# Altium integrated library ALTIUM-PHD_1_27_SMT_DUAL_SOCKET_HEADER_6230XX21021-rev16b.IntLib: 24 symbols
Pins are listed as number, name and electrical type; pins without a type are passive.

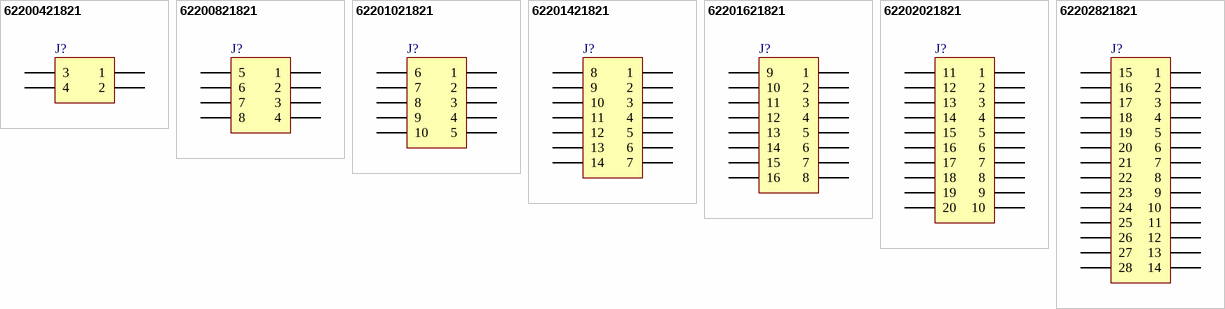
[diagram p0: symbols 62200421821 to 62202821821]

## 62200421821
designator J?, comment 04p  (value not drawn)
WR-PHD 1.27 mm Dual Socket Header, 04p; PartNumber: 62200421821; PublishedDate: July 2016; Publisher: Wurth Elektronik; ComponentLink1Description: Manufacturer; ComponentLink1URL: http://www.we-online.de; ComponentLink2Description: Datasheet; ComponentLink2URL: http://katalog.we-online.de/em/datasheet/6220xx21821.pdf; PinNumber: 04p
footprint 62200421821
pins: 1, 2, 3, 4

## 62200821821
designator J?, comment 08p  (value not drawn)
WR-PHD 1.27 mm Dual Socket Header, 08p; PartNumber: 62200821821; PublishedDate: July 2016; Publisher: Wurth Elektronik; ComponentLink1Description: Manufacturer; ComponentLink1URL: http://www.we-online.de; ComponentLink2Description: Datasheet; ComponentLink2URL: http://katalog.we-online.de/em/datasheet/6220xx21821.pdf; PinNumber: 08p
footprint 62200821821
pins: 1, 2, 3, 4, 5, 6, 7, 8

## 62201021821
designator J?, comment 10p  (value not drawn)
WR-PHD 1.27 mm Dual Socket Header, 10p; PartNumber: 62201021821; PublishedDate: July 2016; Publisher: Wurth Elektronik; ComponentLink1Description: Manufacturer; ComponentLink1URL: http://www.we-online.de; ComponentLink2Description: Datasheet; ComponentLink2URL: http://katalog.we-online.de/em/datasheet/6220xx21821.pdf; PinNumber: 10p
footprint 62201021821
pins: 1, 2, 3, 4, 5, 6, 7, 8, 9, 10

## 62201421821
designator J?, comment 14p  (value not drawn)
WR-PHD 1.27 mm Dual Socket Header, 14p; PartNumber: 62201421821; PublishedDate: July 2016; Publisher: Wurth Elektronik; ComponentLink1Description: Manufacturer; ComponentLink1URL: http://www.we-online.de; ComponentLink2Description: Datasheet; ComponentLink2URL: http://katalog.we-online.de/em/datasheet/6220xx21821.pdf; PinNumber: 14p
footprint 62201421821
pins: 1, 2, 3, 4, 5, 6, 7, 8, 9, 10, 11, 12, 13, 14

## 62201621821
designator J?, comment 16p  (value not drawn)
WR-PHD 1.27 mm Dual Socket Header, 16p; PartNumber: 62201621821; PublishedDate: July 2016; Publisher: Wurth Elektronik; ComponentLink1Description: Manufacturer; ComponentLink1URL: http://www.we-online.de; ComponentLink2Description: Datasheet; ComponentLink2URL: http://katalog.we-online.de/em/datasheet/6220xx21821.pdf; PinNumber: 16p
footprint 62201621821
pins: 1, 2, 3, 4, 5, 6, 7, 8, 9, 10, 11, 12, 13, 14, 15, 16

## 62202021821
designator J?, comment 20p  (value not drawn)
WR-PHD 1.27 mm Dual Socket Header, 20p; PartNumber: 62202021821; PublishedDate: July 2016; Publisher: Wurth Elektronik; ComponentLink1Description: Manufacturer; ComponentLink1URL: http://www.we-online.de; ComponentLink2Description: Datasheet; ComponentLink2URL: http://katalog.we-online.de/em/datasheet/6220xx21821.pdf; PinNumber: 20p
footprint 62202021821
pins: 1, 2, 3, 4, 5, 6, 7, 8, 9, 10, 11, 12, 13, 14, 15, 16, 17, 18, 19, 20

## 62202821821
designator J?, comment 28p  (value not drawn)
WR-PHD 1.27 mm Dual Socket Header, 28p; PartNumber: 62202821821; PublishedDate: July 2016; Publisher: Wurth Elektronik; ComponentLink1Description: Manufacturer; ComponentLink1URL: http://www.we-online.de; ComponentLink2Description: Datasheet; ComponentLink2URL: http://katalog.we-online.de/em/datasheet/6220xx21821.pdf; PinNumber: 28p
footprint 62202821821
pins: 1, 2, 3, 4, 5, 6, 7, 8, 9, 10, 11, 12, 13, 14, 15, 16, 17, 18, 19, 20, 21, 22, 23, 24, 25, 26, 27, 28


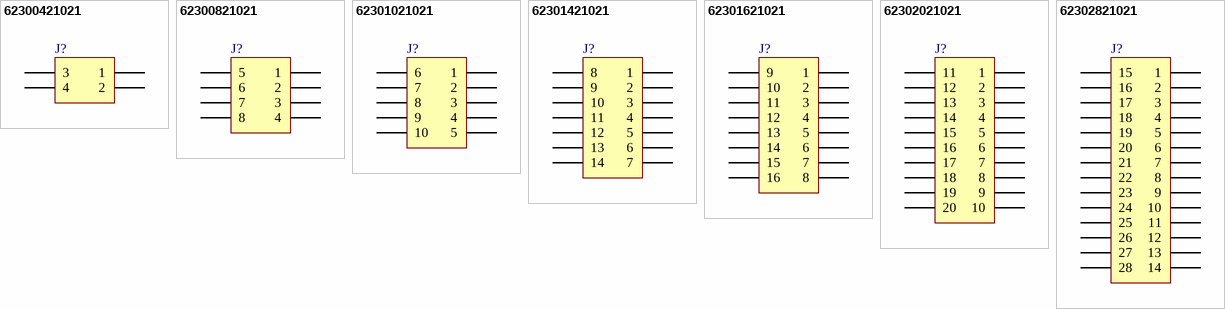
[diagram p1: symbols 62300421021 to 62302821021]

## 62300421021
designator J?, comment 04p  (value not drawn)
WR-PHD 1.27 mm Dual SMT Socket Header, 04p; PartNumber: 62300421021; PublishedDate: July 2016; Publisher: Wurth Elektronik; ComponentLink1Description: Manufacturer; ComponentLink1URL: http://www.we-online.de; ComponentLink2Description: Datasheet; ComponentLink2URL: http://katalog.we-online.de/em/datasheet/6230xx21021.pdf; PinNumber: 04p
footprint 62300421021
pins: 1, 2, 3, 4

## 62300821021
designator J?, comment 08p  (value not drawn)
WR-PHD 1.27 mm Dual SMT Socket Header, 08p; PartNumber: 62300821021; PublishedDate: July 2016; Publisher: Wurth Elektronik; ComponentLink1Description: Manufacturer; ComponentLink1URL: http://www.we-online.de; ComponentLink2Description: Datasheet; ComponentLink2URL: http://katalog.we-online.de/em/datasheet/6230xx21021.pdf; PinNumber: 08p
footprint 62300821021
pins: 1, 2, 3, 4, 5, 6, 7, 8

## 62301021021
designator J?, comment 10p  (value not drawn)
WR-PHD 1.27 mm Dual SMT Socket Header, 10p; PartNumber: 62301021021; PublishedDate: July 2016; Publisher: Wurth Elektronik; ComponentLink1Description: Manufacturer; ComponentLink1URL: http://www.we-online.de; ComponentLink2Description: Datasheet; ComponentLink2URL: http://katalog.we-online.de/em/datasheet/6230xx21021.pdf; PinNumber: 10p
footprint 62301021021
pins: 1, 2, 3, 4, 5, 6, 7, 8, 9, 10

## 62301421021
designator J?, comment 14p  (value not drawn)
WR-PHD 1.27 mm Dual SMT Socket Header, 14p; PartNumber: 62301421021; PublishedDate: July 2016; Publisher: Wurth Elektronik; ComponentLink1Description: Manufacturer; ComponentLink1URL: http://www.we-online.de; ComponentLink2Description: Datasheet; ComponentLink2URL: http://katalog.we-online.de/em/datasheet/6230xx21021.pdf; PinNumber: 14p
footprint 62301421021
pins: 1, 2, 3, 4, 5, 6, 7, 8, 9, 10, 11, 12, 13, 14

## 62301621021
designator J?, comment 16p  (value not drawn)
WR-PHD 1.27 mm Dual SMT Socket Header, 16p; PartNumber: 62301621021; PublishedDate: July 2016; Publisher: Wurth Elektronik; ComponentLink1Description: Manufacturer; ComponentLink1URL: http://www.we-online.de; ComponentLink2Description: Datasheet; ComponentLink2URL: http://katalog.we-online.de/em/datasheet/6230xx21021.pdf; PinNumber: 16p
footprint 62301621021
pins: 1, 2, 3, 4, 5, 6, 7, 8, 9, 10, 11, 12, 13, 14, 15, 16

## 62302021021
designator J?, comment 20p  (value not drawn)
WR-PHD 1.27 mm Dual SMT Socket Header, 20p; PartNumber: 62302021021; PublishedDate: July 2016; Publisher: Wurth Elektronik; ComponentLink1Description: Manufacturer; ComponentLink1URL: http://www.we-online.de; ComponentLink2Description: Datasheet; ComponentLink2URL: http://katalog.we-online.de/em/datasheet/6230xx21021.pdf; PinNumber: 20p
footprint 62302021021
pins: 1, 2, 3, 4, 5, 6, 7, 8, 9, 10, 11, 12, 13, 14, 15, 16, 17, 18, 19, 20

## 62302821021
designator J?, comment 28p  (value not drawn)
WR-PHD 1.27 mm Dual SMT Socket Header, 28p; PartNumber: 62302821021; PublishedDate: July 2016; Publisher: Wurth Elektronik; ComponentLink1Description: Manufacturer; ComponentLink1URL: http://www.we-online.de; ComponentLink2Description: Datasheet; ComponentLink2URL: http://katalog.we-online.de/em/datasheet/6230xx21021.pdf; PinNumber: 28p
footprint 62302821021
pins: 1, 2, 3, 4, 5, 6, 7, 8, 9, 10, 11, 12, 13, 14, 15, 16, 17, 18, 19, 20, 21, 22, 23, 24, 25, 26, 27, 28


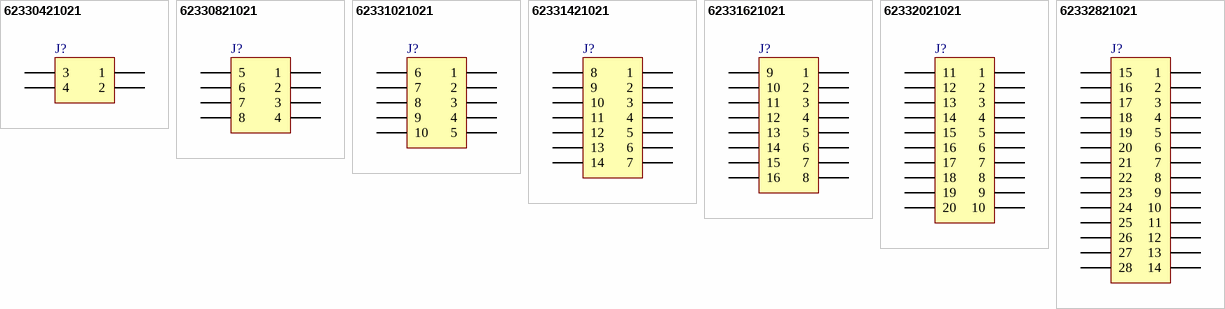
[diagram p2: symbols 62330421021 to 62332821021]

## 62330421021
designator J?, comment 04p  (value not drawn)
WR-PHD 1.27 mm Dual SMT Socket Header, 04p; PartNumber: 62330421021; PublishedDate: July 2016; Publisher: Wurth Elektronik; ComponentLink1Description: Manufacturer; ComponentLink1URL: http://www.we-online.de; ComponentLink2Description: Datasheet; ComponentLink2URL: http://katalog.we-online.de/em/datasheet/6233xx21021.pdf; PinNumber: 04p
footprint 62330421021
pins: 1, 2, 3, 4

## 62330821021
designator J?, comment 08p  (value not drawn)
WR-PHD 1.27 mm Dual SMT Socket Header, 08p; PartNumber: 62330821021; PublishedDate: July 2016; Publisher: Wurth Elektronik; ComponentLink1Description: Manufacturer; ComponentLink1URL: http://www.we-online.de; ComponentLink2Description: Datasheet; ComponentLink2URL: http://katalog.we-online.de/em/datasheet/6233xx21021.pdf; PinNumber: 08p
footprint 62330821021
pins: 1, 2, 3, 4, 5, 6, 7, 8

## 62331021021
designator J?, comment 10p  (value not drawn)
WR-PHD 1.27 mm Dual SMT Socket Header, 10p; PartNumber: 62331021021; PublishedDate: July 2016; Publisher: Wurth Elektronik; ComponentLink1Description: Manufacturer; ComponentLink1URL: http://www.we-online.de; ComponentLink2Description: Datasheet; ComponentLink2URL: http://katalog.we-online.de/em/datasheet/6233xx21021.pdf; PinNumber: 10p
footprint 62331021021
pins: 1, 2, 3, 4, 5, 6, 7, 8, 9, 10

## 62331421021
designator J?, comment 14p  (value not drawn)
WR-PHD 1.27 mm Dual SMT Socket Header, 14p; PartNumber: 62331421021; PublishedDate: July 2016; Publisher: Wurth Elektronik; ComponentLink1Description: Manufacturer; ComponentLink1URL: http://www.we-online.de; ComponentLink2Description: Datasheet; ComponentLink2URL: http://katalog.we-online.de/em/datasheet/6233xx21021.pdf; PinNumber: 14p
footprint 62331421021
pins: 1, 2, 3, 4, 5, 6, 7, 8, 9, 10, 11, 12, 13, 14

## 62331621021
designator J?, comment 16p  (value not drawn)
WR-PHD 1.27 mm Dual SMT Socket Header, 16p; PartNumber: 62331621021; PublishedDate: July 2016; Publisher: Wurth Elektronik; ComponentLink1Description: Manufacturer; ComponentLink1URL: http://www.we-online.de; ComponentLink2Description: Datasheet; ComponentLink2URL: http://katalog.we-online.de/em/datasheet/6233xx21021.pdf; PinNumber: 16p
footprint 62331621021
pins: 1, 2, 3, 4, 5, 6, 7, 8, 9, 10, 11, 12, 13, 14, 15, 16

## 62332021021
designator J?, comment 20p  (value not drawn)
WR-PHD 1.27 mm Dual SMT Socket Header, 20p; PartNumber: 62332021021; PublishedDate: July 2016; Publisher: Wurth Elektronik; ComponentLink1Description: Manufacturer; ComponentLink1URL: http://www.we-online.de; ComponentLink2Description: Datasheet; ComponentLink2URL: http://katalog.we-online.de/em/datasheet/6233xx21021.pdf; PinNumber: 20p
footprint 62332021021
pins: 1, 2, 3, 4, 5, 6, 7, 8, 9, 10, 11, 12, 13, 14, 15, 16, 17, 18, 19, 20

## 62332821021
designator J?, comment 28p  (value not drawn)
WR-PHD 1.27 mm Dual SMT Socket Header, 28p; PartNumber: 62332821021; PublishedDate: July 2016; Publisher: Wurth Elektronik; ComponentLink1Description: Manufacturer; ComponentLink1URL: http://www.we-online.de; ComponentLink2Description: Datasheet; ComponentLink2URL: http://katalog.we-online.de/em/datasheet/6233xx21021.pdf; PinNumber: 28p
footprint 62332821021
pins: 1, 2, 3, 4, 5, 6, 7, 8, 9, 10, 11, 12, 13, 14, 15, 16, 17, 18, 19, 20, 21, 22, 23, 24, 25, 26, 27, 28


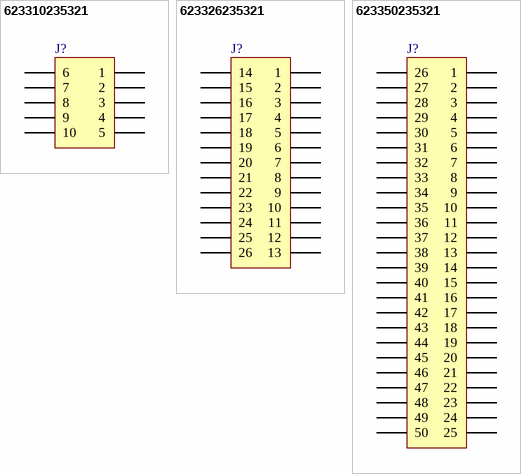
[diagram p3: symbols 623310235321 to 623350235321]

## 623310235321
designator J?, comment 10p  (value not drawn)
WR-PHD 1.27 mm Dual SMT Socket Header Bottom Entry (Reel), 10p; PartNumber: 623310235321; PublishedDate: July 2016; Publisher: Wurth Elektronik; ComponentLink1Description: Manufacturer; ComponentLink1URL: http://www.we-online.de; ComponentLink2Description: Datasheet; ComponentLink2URL: http://katalog.we-online.de/em/datasheet/6233xx235321.pdf; PinNumber: 10p
footprint 623310235321
pins: 1, 2, 3, 4, 5, 6, 7, 8, 9, 10

## 623326235321
designator J?, comment 26p  (value not drawn)
WR-PHD 1.27 mm Dual SMT Socket Header Bottom Entry (Reel), 26p; PartNumber: 623326235321; PublishedDate: July 2016; Publisher: Wurth Elektronik; ComponentLink1Description: Manufacturer; ComponentLink1URL: http://www.we-online.de; ComponentLink2Description: Datasheet; ComponentLink2URL: http://katalog.we-online.de/em/datasheet/6233xx235321.pdf; PinNumber: 26p
footprint 623326235321
pins: 1, 2, 3, 4, 5, 6, 7, 8, 9, 10, 11, 12, 13, 14, 15, 16, 17, 18, 19, 20, 21, 22, 23, 24, 25, 26

## 623350235321
designator J?, comment 50p  (value not drawn)
WR-PHD 1.27 mm Dual SMT Socket Header Bottom Entry (Reel), 50p; PartNumber: 623350235321; PublishedDate: July 2016; Publisher: Wurth Elektronik; ComponentLink1Description: Manufacturer; ComponentLink1URL: http://www.we-online.de; ComponentLink2Description: Datasheet; ComponentLink2URL: http://katalog.we-online.de/em/datasheet/6233xx235321.pdf; PinNumber: 50p
footprint 623350235321
pins: 1, 2, 3, 4, 5, 6, 7, 8, 9, 10, 11, 12, 13, 14, 15, 16, 17, 18, 19, 20, 21, 22, 23, 24, 25, 26, 27, 28, 29, 30, 31, 32, 33, 34, 35, 36, 37, 38, 39, 40, 41, 42, 43, 44, 45, 46, 47, 48, 49, 50